# Altium footprint library Connectors.PcbLib: 73 footprints (part 5 of 5)
Each footprint in its own frame and in the unit in brackets; x right, y up, seen from the top. Pads: shape width x height; smd on the part's side, far side on the other; paste and mask are expansions set on the pad; w line width, h text height; cw(c..) or ccw(c..) is an arc to the next point about the centre after c.
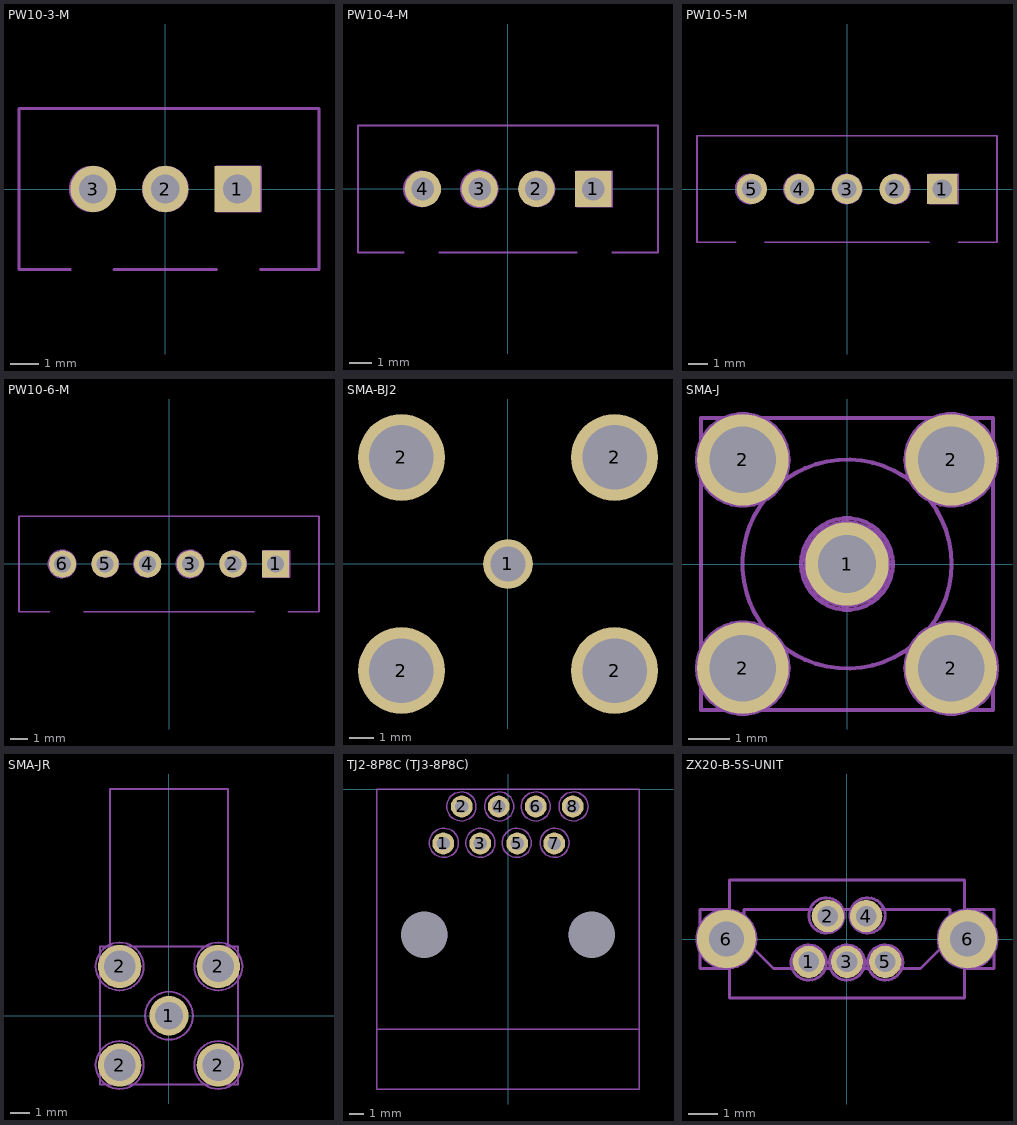
[diagram p4: the footprints below, top view; thin cyan lines are the x and y axes]

## PW10-3-M [mm]
pads (3):
  rect 1.6x1.6 hole 1: 1(2.5,0)
  round 1.6 hole 1: 2(0,0) 3(-2.5,0)
Mechanical 1:
  lines w0.1: -3.302,-2.794 -5.08,-2.794 -5.08,2.794 5.334,2.794 5.334,-2.794 3.302,-2.794 ; -1.778,-2.794 1.778,-2.794
Mechanical 4:
  circle w0.1: c0,0 r0.762
  circle w0.1: c-2.54,0 r0.762
  lines w0.1: 1.778,-0.762 3.302,-0.762 3.302,0.762 1.778,0.762 1.778,-0.762
Mechanical 13:
  text ".Designator" at -2.286,-0.254 h1
3D body: height 6, standoff 0, extent -5.08,-2.794 5.334,2.794
3D body: height 6, standoff 0, extent -1.778,-2.794 1.778,-2.286

## PW10-4-M [mm]
pads (4):
  rect 1.6x1.6 hole 1: 1(3.75,0)
  round 1.6 hole 1: 2(1.25,0) 3(-1.25,0) 4(-3.75,0)
Mechanical 1:
  lines w0.1: -4.6,-2.8 -6.604,-2.8 -6.604,2.794 6.604,2.794 6.604,-2.8 ; -3,-2.8 3,-2.8 ; 4.6,-2.8 6.6,-2.8
Mechanical 4:
  circle w0.1: c-3.81,0 r0.762
  circle w0.1: c-1.27,0 r0.803
  circle w0.1: c1.27,0 r0.762
  lines w0.1: 3.048,-0.762 3.048,0.762 4.572,0.762 4.572,-0.762 3.048,-0.762
3D body: height 6, standoff 0, extent -6.604,-2.8 6.604,2.794
3D body: height 6, standoff 0, extent -3,-2.8 3,-2.3

## PW10-5-M [mm]
pads (5):
  rect 1.6x1.6 hole 1: 1(5,0)
  round 1.6 hole 1: 2(2.5,0) 3(0,0) 4(-2.5,0) 5(-5,0)
Mechanical 1:
  lines w0.1: -5.842,-2.794 -7.874,-2.794 -7.874,2.794 7.874,2.794 7.874,-2.794 5.842,-2.794 ; -4.318,-2.794 4.318,-2.794
Mechanical 4:
  circle w0.1: c-5.08,0 r0.762
  circle w0.1: c2.54,0 r0.762
  circle w0.1: c0,0 r0.762
  circle w0.1: c-2.54,0 r0.762
  lines w0.1: 4.318,-0.762 5.842,-0.762 5.842,0.762 4.318,0.762 4.318,-0.762
Mechanical 13:
  text ".Designator" at -2.286,-0.254 h1
3D body: height 6, standoff 0, extent -7.874,-2.794 7.874,2.794
3D body: height 6, standoff 0, extent -4.318,-2.794 4.318,-2.286

## PW10-6-M [mm]
pads (6):
  rect 1.6x1.6 hole 1: 1(6.25,0)
  round 1.6 hole 1: 2(3.75,0) 3(1.25,0) 4(-1.25,0) 5(-3.75,0) 6(-6.25,0)
Mechanical 1:
  lines w0.1: -7,-2.8 -8.8,-2.8 -8.8,2.794 8.8,2.794 8.8,-2.8 7,-2.8 ; -5,-2.8 5,-2.8
Mechanical 4:
  circle w0.1: c-3.73,0 r0.762
  circle w0.1: c-6.27,0 r0.803
  circle w0.1: c-1.31,0 r0.762
  circle w0.1: c1.23,0 r0.803
  circle w0.1: c3.77,0 r0.762
  lines w0.1: 5.548,-0.762 5.548,0.762 7.072,0.762 7.072,-0.762 5.548,-0.762
3D body: height 6, standoff 0, extent -8.8,-2.8 8.8,2.8
3D body: height 6, standoff 0, extent -5,-2.8 5,-2.3

## SMA-BJ2 [mm]
pads (5):
  round 2 hole 1.4: 1(0,0)
  round 3.5 hole 2.6: 2(-4.3,-4.3) 2(-4.3,4.3) 2(4.3,-4.3) 2(4.3,4.3)
3D body: height 0, standoff -5, extent -0.647,-0.635 0.647,0.662
3D body: height 1.5, standoff 0, extent -6.35,-6.35 6.35,6.35
3D body: height 11, standoff 1.5, extent -3.543,-3.518 3.429,3.468

## SMA-J [mm]
height 10
pads (5):
  round 2 hole 1.4: 1(0,0)
  round 2.2 hole 1.6: 2(-2.5,-2.5) 2(-2.5,2.5) 2(2.5,-2.5) 2(2.5,2.5)
Mechanical 1:
  circle w0.1: c0,0 r2.508
  circle w0.1: c0,0 r1
  lines w0.1: -3.5,-3.5 -3.5,3.5 3.5,3.5 3.5,-3.5 -3.5,-3.5
Mechanical 4:
  circle w0.1: c0,0 r1.1
  circle w0.1: c-2.5,2.5 r1.1
  circle w0.1: c-2.5,-2.5 r1.1
  circle w0.1: c2.5,-2.5 r1.1
  circle w0.1: c2.5,2.5 r1.1
Mechanical 13:
  text ".Designator" at -2.2,-4.7 h1
3D body: height 2, standoff 0, extent -3.5,-3.5 3.5,3.5
3D body: height 10, standoff 2, extent -2.54,-2.495 2.44,2.495
3D body: height 18, standoff 6, extent -4.96,-4.99 5,4.99

## SMA-JR [mm]
height 10
pads (5):
  round 2 hole 1.4: 1(0,0)
  round 2.2 hole 1.6: 2(-2.5,-2.5) 2(-2.5,2.5) 2(2.5,-2.5) 2(2.5,2.5)
Mechanical 1:
  lines w0.1: -3,3.5 -3,11.5 3,11.5 3,3.5 ; -3.5,-3.5 3.5,-3.5 3.5,3.5 -3.5,3.5 -3.5,-3.5
Mechanical 4:
  circle w0.1: c2.5,2.5 r1.217
  circle w0.1: c0,0 r1.217
  circle w0.1: c2.5,-2.5 r1.217
  circle w0.1: c-2.5,-2.5 r1.217
  circle w0.1: c-2.5,2.5 r1.217
Mechanical 13:
  text ".Designator" at -1.3,4.8 h1
3D body: height 18, standoff 6, extent -4.961,-4.99 5,4.99
3D body: height 10.99, standoff 1.01, extent -4.964,4.6 4.996,16.6
3D body: height 8.99, standoff 3.01, extent -2.98,3.5 2.996,11.5
3D body: height 10, standoff 0, extent -3.5,-3.5 3.5,3.5

## TJ2-8P8C (TJ3-8P8C) [mm]
pads (10):
  round 0 hole 3.2 unplated: 0(-5.75,-10) 0(5.75,-10)
  round 1.5 hole 0.9: 1(-4.445,-3.74) 2(-3.175,-1.2) 3(-1.905,-3.74) 4(-0.635,-1.2) 5(0.635,-3.74) 6(1.905,-1.2) 7(3.175,-3.74) 8(4.445,-1.2)
Mechanical 1:
  lines w0.1: -9,-16.5 9,-16.5 ; -9,-20.6 9,-20.6 9,0 -9,0 -9,-20.6
Mechanical 4:
  circle w0.1: c5.7,-10 r1.5
  circle w0.1: c-5.7,-10 r1.5
  circle w0.1: c4.5,-1.2 r1
  circle w0.1: c1.9,-1.2 r1
  circle w0.1: c-0.6,-1.2 r1
  circle w0.1: c-3.2,-1.2 r1
  circle w0.1: c3.2,-3.7 r1
  circle w0.1: c0.6,-3.7 r1
  circle w0.1: c-1.9,-3.7 r1
  circle w0.1: c-4.4,-3.7 r1
Mechanical 13:
  text ".Designator" at -3.4,-13.3 h1
3D body: height 16, standoff 0, extent -9,-20.6 9,0

## ZX20-B-5S-UNIT [mm]
pads (7):
  round 1.1 hole 0.7: 1(-1.3,-0.775) 2(-0.65,0.775) 3(0,-0.775) 4(0.65,0.775) 5(1.3,-0.775)
  round 2 hole 1.2: 6(-4.1,0) 6(4.1,0)
Mechanical 1:
  circle w0.1: c1.3,-0.8 r0.6
  circle w0.1: c-1.3,-0.8 r0.6
  circle w0.1: c0,-0.8 r0.6
  circle w0.1: c0.7,0.8 r0.6
  circle w0.1: c-0.7,0.8 r0.6
  circle w0.1: c4.1,0 r1
  circle w0.1: c-4.1,0 r1
Mechanical 4:
  lines w0.1: -4,-1 -5,-1 -5,1 -4,1 ; 4,-1 5,-1 5,0 5,1 4,1 ; -4,-2 4,-2 4,2 -4,2 -4,-2 ; -3.5,0 -3.5,1 3,1 3.5,1 3.5,0 2.5,-1 -2.5,-1 -3.5,0
3D body: height 0.5, standoff 0, extent 3.108,-0.998 5.1,0.998
3D body: height 0.5, standoff 0, extent -5.092,-0.998 -3.1,0.998
3D body: height 0.5, standoff 0, extent 0.804,-1.274 1.8,-0.276
3D body: height 0.5, standoff 0, extent -0.496,-1.274 0.5,-0.276
3D body: height 0.5, standoff 0, extent -1.796,-1.274 -0.8,-0.276
3D body: height 0.5, standoff 0, extent 0.154,0.276 1.15,1.274
3D body: height 0.5, standoff 0, extent -1.146,0.276 -0.15,1.274
3D body: height 0.5, standoff -0.5, extent 1.102,-0.974 1.5,-0.575
3D body: height 0.5, standoff -0.5, extent -0.198,-0.974 0.2,-0.575
3D body: height 0.5, standoff -0.5, extent -1.498,-0.974 -1.1,-0.575
3D body: height 0.5, standoff -0.5, extent 0.452,0.576 0.85,0.975
3D body: height 0.5, standoff -0.5, extent -0.848,0.575 -0.45,0.975
3D body: height -0.5, standoff -5.5, extent -4,-2 4,2
3D body: height -5.5, standoff -12.5, extent -3.5,-1 3.5,1